# EAGLE library part EF86 (library tubes)
EF86: Audio pentode tube (Svetlana) Heater 6.3V/200mA, 300V Ua, 1W Qmax
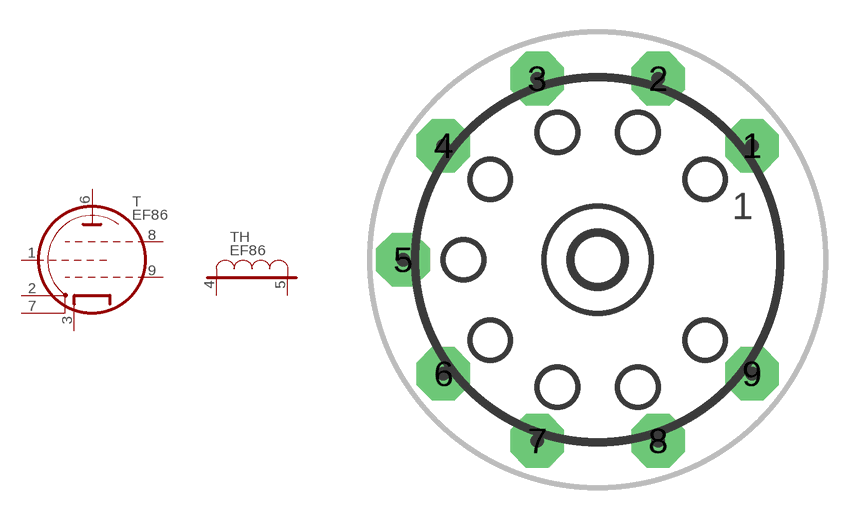
[diagram p1: symbol with the pads of NOVAL; footprint NOVAL]

Designator prefix T; gates  =EF86 H=EL84H

## EF86  [NOVAL]
1   :G2  in
2   :IS1
3   :C
4  H:H1
5  H:H2
6   :A
7   :IS2
8   :G3
9   :G1

## Footprint NOVAL (pad centres in mm)
Vacuum tube socket, 9 pins
drill 1.295 pad 2.54 octagon: 1 0,0; 2 -4.445,3.175; 3 -10.16,3.175; 4 -14.605,0; 5 -16.51,-5.397; 6 -14.605,-10.795; 7 -10.16,-13.97; 8 -4.445,-13.97; 9 0,-10.795